# Altium footprint library General IC.PcbLib: 24 footprints (part 2 of 2)
Each footprint in its own frame and in the unit in brackets; x right, y up, seen from the top. Pads: shape width x height; smd on the part's side, far side on the other; paste and mask are expansions set on the pad; w line width, h text height; cw(c..) or ccw(c..) is an arc to the next point about the centre after c.
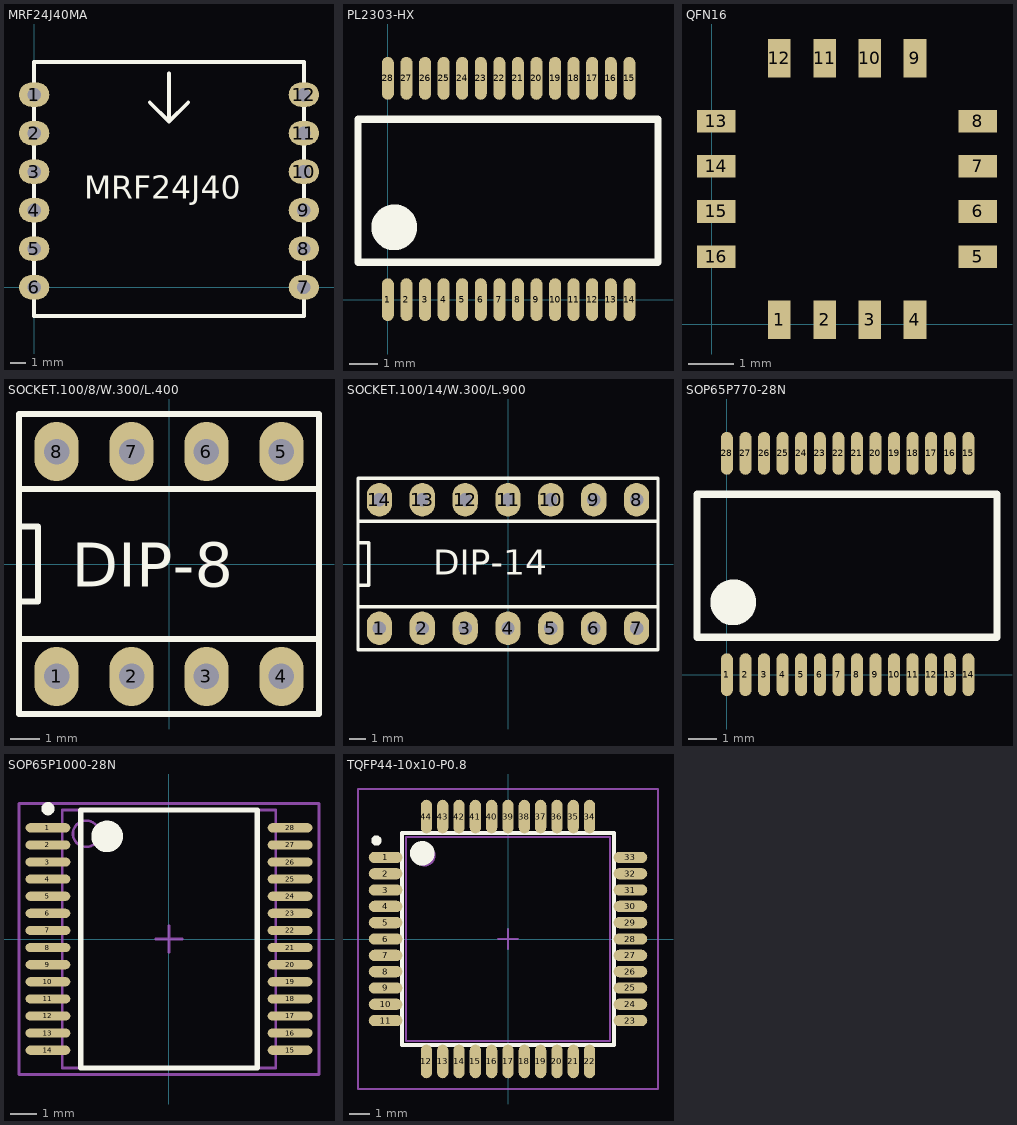
[diagram p1: the footprints below, top view; thin cyan lines are the x and y axes]

## MRF24J40MA [mm] "Microchip Zigbee Module"
pads (12):
  oval 2x1.6 hole 0.9: 1(0,12.7) 2(0,10.16) 3(0,7.62) 4(0,5.08) 5(0,2.54) 6(0,0) 7(17.78,0) 8(17.78,2.54) 9(17.78,5.08) 10(17.78,7.62) 11(17.78,10.16) 12(17.78,12.7)
Top Overlay:
  lines w0.254: 0,8.255 0,-1.905 ; 7.62,12.192 8.89,10.922 ; 8.89,14.097 8.89,10.922 ; 10.16,12.192 8.89,10.922 ; 0,-1.905 0,14.859 17.78,14.859 17.78,-1.905 0,-1.905
  text "MRF24J40" at 3.302,5.842 h1.52

## PL2303-HX [mil]
pads (28):
  oval 16.53x59.03 smd mask+7.9: 1(0,0) 2(25.6,0) 3(51.18,0) 4(76.78,0) 5(102.37,0) 6(127.97,0) 7(153.57,0) 8(179.15,0) 9(204.75,0) 10(230.35,0) 11(255.93,0) 12(281.53,0) 13(307.12,0) 14(332.7,0) 15(332.7,305) 16(307.12,305) 17(281.53,305) 18(255.93,305) 19(230.35,305) 20(204.75,305) 21(179.15,305) 22(153.57,305) 23(127.97,305) 24(102.37,305) 25(76.78,305) 26(51.18,305) 27(25.6,305) 28(0,305)
Top Overlay:
  circle w39.37: c8.8,99.7 r11.88
  lines w10: -41.22,51.66 372.21,51.66 372.21,248.53 -41.22,248.53 -41.22,51.66
3D body: height 84.65, standoff 0, extent -37.01,0.01 369.69,305.35

## QFN16 [mm] "QFN 16 LEAD 6x6mm"
height 2
pads (16):
  rect 0.5x0.85 smd: 1(1.5,0.104) 2(2.5,0.104) 3(3.5,0.104) 4(4.5,0.104) 9(4.5,5.89) 10(3.5,5.89) 11(2.5,5.89) 12(1.5,5.89)
  rect 0.85x0.5 smd: 5(5.89,1.5) 6(5.89,2.5) 7(5.89,3.5) 8(5.89,4.5) 13(0.1,4.5) 14(0.1,3.5) 15(0.1,2.5) 16(0.1,1.5)
3D body: height 0.8, standoff 0, extent 0,0 6,6

## SOCKET.100/8/W.300/L.400 [mm]
pads (8):
  oval 1.5x2 hole 0.864: 1(-3.81,-3.81) 2(-1.27,-3.81) 3(1.27,-3.81) 4(3.81,-3.81) 5(3.81,3.81) 6(1.27,3.81) 7(-1.27,3.81) 8(-3.81,3.81)
Top Overlay:
  lines w0.203: -5.08,-2.54 -5.08,-1.27 ; -5.08,-2.54 -5.08,-5.08 5.08,-5.08 5.08,2.54 ; -5.08,-2.54 -5.08,2.54 ; -5.08,-2.54 5.08,-2.54 ; -5.08,-2.54 -5.08,2.54 ; -5.08,-2.54 5.08,-2.54 ; -5.08,-1.27 -5.08,1.27 ; -5.08,-1.27 -4.445,-1.27 ; -5.08,-1.27 -4.445,-1.27 ; -5.08,1.27 -5.08,5.08 5.08,5.08 5.08,2.54 ; -5.08,1.27 -4.445,1.27 ; -5.08,1.27 -4.445,1.27 ; -5.08,2.54 5.08,2.54 ; -5.08,2.54 5.08,2.54 ; -4.445,-1.27 -4.445,1.27 ; -4.445,-1.27 -4.445,1.27 ; 5.08,-2.54 5.08,2.54 ; 5.08,-2.54 5.08,2.54
  text "DIP-8" at -3.302,-0.762 h1.5
3D body: height 4.5, standoff -3.09, extent -5.08,-5.08 5.08,5.08

## SOCKET.100/14/W.300/L.900 [mm]
height 5.59
pads (14):
  oval 1.5x2 hole 0.8: 1(-7.62,-3.81) 2(-5.08,-3.81) 3(-2.54,-3.81) 4(0,-3.81) 5(2.54,-3.81) 6(5.08,-3.81) 7(7.62,-3.81) 8(7.62,3.81) 9(5.08,3.81) 10(2.54,3.81) 11(0,3.81) 12(-2.54,3.81) 13(-5.08,3.81) 14(-7.62,3.81)
Top Overlay:
  lines w0.203: -8.89,-2.54 -8.89,-1.27 ; -8.89,-2.54 -8.89,-1.27 ; -8.89,-2.54 8.89,-2.54 ; -8.89,-2.54 8.89,-2.54 ; -8.89,-1.27 -8.255,-1.27 ; -8.89,-1.27 -8.89,1.27 ; -8.89,-1.27 -8.255,-1.27 ; -8.89,-1.27 -8.89,1.27 ; -8.89,1.27 -8.255,1.27 ; -8.89,1.27 -8.89,2.54 ; -8.89,1.27 -8.255,1.27 ; -8.89,1.27 -8.89,2.54 ; -8.89,2.54 8.89,2.54 ; -8.89,2.54 8.89,2.54 ; -8.255,-1.27 -8.255,1.27 ; -8.255,-1.27 -8.255,1.27 ; 8.89,-2.54 8.89,2.54 ; -8.89,-5.08 8.89,-5.08 8.89,5.08 -8.89,5.08 -8.89,-5.08
  text "DIP-14" at -4.445,-0.635 h1.5
3D body: height 4.5, standoff -3.09, extent -8.89,-5.08 8.89,5.08

## SOP65P770-28N [mil]
pads (28):
  oval 16.53x59.03 smd mask+7.9: 1(0,0) 2(25.6,0) 3(51.18,0) 4(76.78,0) 5(102.37,0) 6(127.97,0) 7(153.57,0) 8(179.15,0) 9(204.75,0) 10(230.35,0) 11(255.93,0) 12(281.53,0) 13(307.12,0) 14(332.7,0) 15(332.7,305) 16(307.12,305) 17(281.53,305) 18(255.93,305) 19(230.35,305) 20(204.75,305) 21(179.15,305) 22(153.57,305) 23(127.97,305) 24(102.37,305) 25(76.78,305) 26(51.18,305) 27(25.6,305) 28(0,305)
Top Overlay:
  circle w39.37: c8.8,99.7 r11.88
  lines w10: -41.22,51.66 -41.22,248.53 372.21,248.53 372.21,51.66 -41.22,51.66
3D body: height 84.65, standoff 0, extent -37.01,0.01 369.69,305.35

## SOP65P1000-28N [mm] "SOP, 28-Leads, Body 9.7x8mm, Pitch 0.65mm, IPC Medium Density"
height 2
pads (28):
  oval 1.7x0.35 smd: 1(-4.6,4.225) 2(-4.6,3.575) 3(-4.6,2.925) 4(-4.6,2.275) 5(-4.6,1.625) 6(-4.6,0.975) 7(-4.6,0.325) 8(-4.6,-0.325) 9(-4.6,-0.975) 10(-4.6,-1.625) 11(-4.6,-2.275) 12(-4.6,-2.925) 13(-4.6,-3.575) 14(-4.6,-4.225) 15(4.6,-4.225) 16(4.6,-3.575) 17(4.6,-2.925) 18(4.6,-2.275) 19(4.6,-1.625) 20(4.6,-0.975) 21(4.6,-0.325) 22(4.6,0.325) 23(4.6,0.975) 24(4.6,1.625) 25(4.6,2.275) 26(4.6,2.925) 27(4.6,3.575) 28(4.6,4.225)
Top Overlay:
  circle w0.25: c-4.6,4.95 r0.125
  circle w0.6: c-2.35,3.9 r0.3
  lines w0.2: -3.35,-4.9 -3.35,4.9 3.35,4.9 3.35,-4.9 -3.35,-4.9
Mechanical 13:
  circle w0.1: c-3.15,4 r0.5
  lines w0.1: -4.05,-4.9 -4.05,4.9 4.05,4.9 4.05,-4.9 -4.05,-4.9
Mechanical 15:
  lines w0.1: -0.5,0 0.5,0 ; 0,-0.5 0,0.5 ; -5.7,-5.15 -5.7,5.15 5.7,5.15 5.7,-5.15 -5.7,-5.15
3D body: height 2, standoff 0, extent -4.05,-4.9 4.05,4.9

## TQFP44-10x10-P0.8 [mm] "QFP, 44-Leads, Body 10x10mm, Pitch 0.8mm, IPC High Density"
height 2.44
pads (44):
  oval 1.65x0.55 smd: 1(-6,4) 2(-6,3.2) 3(-6,2.4) 4(-6,1.6) 5(-6,0.8) 6(-6,0) 7(-6,-0.8) 8(-6,-1.6) 9(-6,-2.4) 10(-6,-3.2) 11(-6,-4) 23(6,-4) 24(6,-3.2) 25(6,-2.4) 26(6,-1.6) 27(6,-0.8) 28(6,0) 29(6,0.8) 30(6,1.6) 31(6,2.4) 32(6,3.2) 33(6,4)
  oval 0.55x1.65 smd: 12(-4,-6) 13(-3.2,-6) 14(-2.4,-6) 15(-1.6,-6) 16(-0.8,-6) 17(0,-6) 18(0.8,-6) 19(1.6,-6) 20(2.4,-6) 21(3.2,-6) 22(4,-6) 34(4,6) 35(3.2,6) 36(2.4,6) 37(1.6,6) 38(0.8,6) 39(0,6) 40(-0.8,6) 41(-1.6,6) 42(-2.4,6) 43(-3.2,6) 44(-4,6)
Top Overlay:
  circle w0.25: c-6.45,4.825 r0.125
  circle w0.6: c-4.2,4.2 r0.3
  lines w0.2: -5.2,-5.2 -5.2,5.2 5.2,5.2 5.2,-5.2 -5.2,-5.2
Mechanical 13:
  circle w0.1: c-4.1,4.1 r0.5
  lines w0.1: -5,-5 -5,5 5,5 5,-5 -5,-5
Mechanical 15:
  lines w0.1: -0.5,0 0.5,0 ; 0,-0.5 0,0.5 ; -7.35,-7.35 -7.35,7.35 7.35,7.35 7.35,-7.35 -7.35,-7.35
3D body: height 1.07, standoff 0, extent -5.994,-5.994 6.006,6.006